# Altium schematic symbol library generic_passives.SchLib: 2 symbols
Pins are listed as number, name and electrical type; pins without a type are passive.

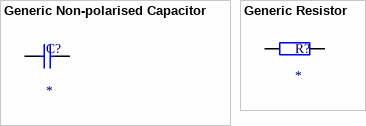
[diagram p0: symbols Generic Non-polarised Capacitor to Generic Resistor]

## Generic Non-polarised Capacitor
designator C?
generic non-polarised capacitor; Value: *; Part Number: *; Manufacturer: *
pins: 1, 2

## Generic Resistor
designator R?
generic resistor; Value: *; Part Number: *; Manufacturer: *
pins: 1, 2